# EAGLE library part HMC1051Z (library User-Submitted)
Honeywell HMC1051Z 1-Axis Magnetometer The Honeywell HMC1051Z, HMC1051ZL, HMC1052L and HMC1053 are magnetoresistive sensors designed for low field magnetic sensing. Various packaging options have been created from the basic HMC1052 sensor chip to create 1, 2 and 3-axis magneto-resistive sensors forcost effective and small size solutions. The advantage of the HMC105X family of sensors is in the near-perfectly orthogonal dual sensor on a single chip with shared set/reset and offset coils/straps included. Datasheet <http://www51.honeywell.com/aero/common/documents/myaerospacecatalog-documents/Defense_Brochures-documents/HMC_1051-1052-1053_Data_Sheet.pdf> SparkFun Products Compass Module - HMC1051Z (single axis) <https://www.sparkfun.com/products/11071> (COM-11071) IMU 6DOF v4 Sensor Board <https://www.sparkfun.com/products/8726> (COM-08726) IMU 6 Degrees of Freedom - v4 with Bluetooth Capability <https://www.sparkfun.com/products/8454> (COM-08454)
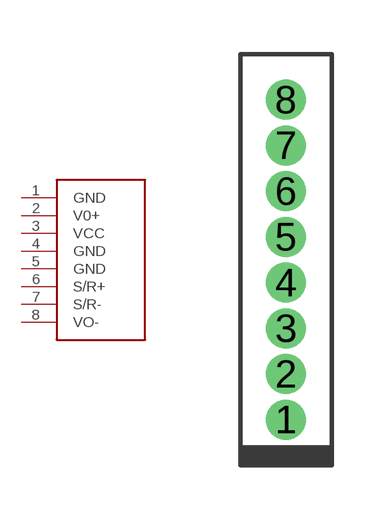
[diagram p8: symbol with the pads of HMC1051Z3; footprint HMC1051Z3]

Designator prefix -

## HMC1051Z (PROD_ID: COMP-08797; SF_ID: COM-11071)  [HMC1051Z3]
1  GND
2  V0+
3  VCC
4  GND
5  GND
6  S/R+
7  S/R-
8  VO-

## Footprint HMC1051Z3 (pad centres in mm)
drill 0.6 pad 0.914: 1 0,0; 2 0,1.27; 3 0,2.54; 4 0,3.81; 5 0,5.08; 6 0,6.35; 7 0,7.62; 8 0,8.89